# Altium footprint library cap_2917-7343.PcbLib: 1 footprints
Each footprint in its own frame and in the unit in brackets; x right, y up, seen from the top. Pads: shape width x height; smd on the part's side, far side on the other; paste and mask are expansions set on the pad; w line width, h text height; cw(c..) or ccw(c..) is an arc to the next point about the centre after c.
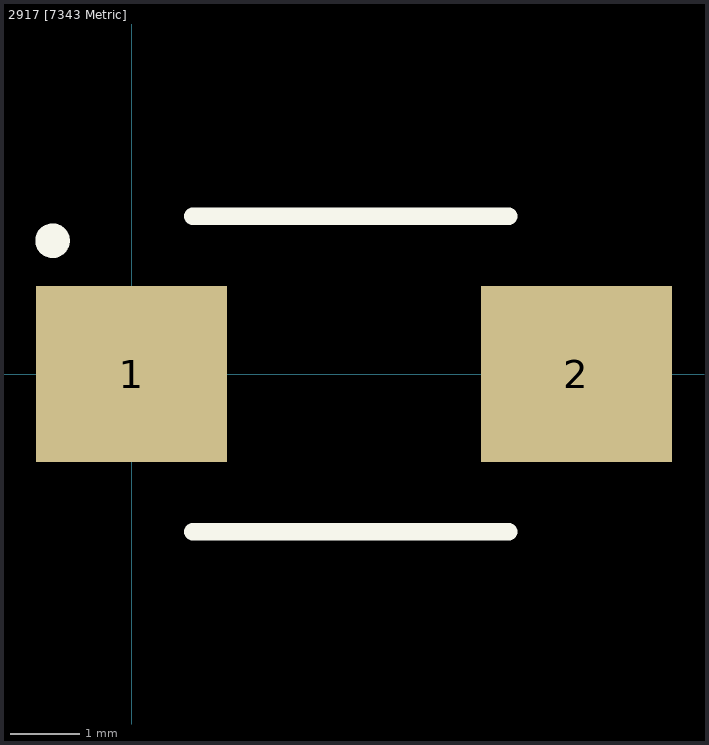
[diagram p0: the footprint, top view; thin cyan lines are the x and y axes]

## 2917 [7343 Metric] [mm]
height 2.8
pads (2):
  rect 2.77x2.55 smd: 1(0,0) 2(6.44,0)
Top Overlay:
  circle w0.25: c-1.143,1.929 r0.125
  lines w0.254: 0.889,-2.286 5.461,-2.286 ; 0.889,2.286 5.461,2.286
3D body "T491D227M016AT.step": height 3.11, standoff 0, extent -0.498,-2.286 7.102,2.314